# Altium schematic symbol library PC110.SchLib: 45 symbols (part 2 of 2)

## VL82C420-QFP
designator *  Reference: U
pins: 1 VCC (power), 2 SA16 (io), 3 LA17 (io), 4 LA18 (io), 5 LA19 (io), 6 LA20 (io), 7 LA21 (io), 8 LA22 (io), 9 LA23 (io), 10 REFRESH# (io), 11 GND (power), 12 SA0 (io), 13 SA1 (io), 14 SBHE# (io), 15 VCCIO (power), 16 (in), 17 (in), 18 MEMR# (io), 19 MEMW# (io), 20 BIOS_CE# (out), 21 AEN (out), 22 FDCTC (io), 23 IOCHRDY (io), 24 ZEROWS# (io), 25 PCMCIA_CLK (out), 26 GND (power), 27 MEMCS16# (in), 28 IOCS16# (in), 29 IOR# (out), 30 IOW# (out), 31 (in), 32 (in), 33 PCMCIA_BALE (out), 34 GND (power), 35 SD0 (io), 36 SD1 (io), 37 SD2 (io), 38 SD3 (io), 39 SD4 (io), 40 SD5 (io), 41 SD6 (io), 42 SD7 (io), 43 VCCIO (power), 44 SD8 (io), 45 SD9 (io), 46 SD10 (io), 47 SD11 (io), 48 SD12 (io), 49 SD13 (io), 50 SD14 (io), 51 SD15 (io), 52 GND (power), 53 CLOCK_IN (in), 54 SPKR (out), 55 RESET (io), 56 PCMCIA_CS (io), 57 TP1 (io), 58 PWRGD_P13 (out), 59 UNKNOWN2 (io), 60 UNKNOWN1 (io), 61 Bowman5 (io), 62 PCMCIA_RELATED (io), 63 (in), 64 (in), 65 KBSPKDN (in), 66 PS/RCLR# (io), 67 RTCOSCO (io), 68 RTCOSCI (io), 69 RTCBAT (in), 70 KBRESET# (io), 71 RTCBAT_Sense (io), 72 PWRGD (out), 73 32KHz (out), 74 (in), 75 Bowman2 (io), 76 Bowman3 (io), 77 Bowman4 (io), 78 Bowman1 (io), 79 UNKNOWN4 (io), 80 (in), 81 UNKNOWN3 (io), 82 GND (power), 83 CPUA2 (io), 84 CPUA3 (io), 85 CPUA4 (io), 86 CPUA5 (io), 87 CPUA6 (io), 88 CPUA7 (io), 89 CPUA8 (io), 90 CPUA9 (io), 91 CPUA10 (io), 92 CPUA11 (io), 93 CPUA12 (io), 94 VCC (power), 95 CPUA13 (io), 96 CPUA14 (io), 97 CPUA15 (io), 98 CPUA16 (io), 99 CPUA17 (io), 100 CPUA18 (io), 101 CPUA19 (io), 102 CPUA20 (io), 103 CPUA21 (io), 104 GND (power), 105 CPU2XCLK (in), 106 CPUA22 (io), 107 CPUA23 (io), 108 CPUA24 (io), 109 CPUA25 (io), 110 CPUA31 (io), 111 CPULDEV# (out), 112 CPUADS# (in), 113 CPUBLAST# (in), 114 CPUBRDY# (out), 115 CPURDY# (out), 116 CPUKEN# (out), 117 CPUHOLD (out), 118 CPUAHOLD (out), 119 CPUHLDA (in), 120 CPUWR# (in), 121 CPUBE0# (in), 122 CPUBE1# (in), 123 CPUBE2# (in), 124 CPUBE3# (in), 125 CPUCLK (out), 126 VCC (power), 127 CPUCLK33 (out), 128 GND (power), 129 CPUCLKSENS (out), 130 VCC (power), 131 CPUMIO# (in), 132 CPUDC# (in), 133 CPUEADS# (out), 134 CPUA20M# (out), 135 CPURESET (out), 136 CPUFLUSH# (out), 137 CPUINTR (out), 138 CPUNMI (out), 139 CPUSRESET# (out), 140 CPUSMIACT# (in), 141 CPUSMI# (out), 142 (in), 143 (in), 144 CPUSTPCLK# (out), 145 D0 (io), 146 D1 (io), 147 D2 (io), 148 D3 (io), 149 D4 (io), 150 D5 (io), 151 D6 (io), 152 D7 (io), 153 D8 (io), 154 D9 (io), 155 D10 (io), 156 GND (power), 157 VCC (power), 158 D11 (io), 159 D12 (io), 160 D13 (io), 161 D14 (io), 162 D15 (io), 163 D16 (io), 164 D17 (io), 165 D18 (io), 166 D19 (io), 167 D20 (io), 168 D21 (io), 169 D22 (io), 170 D23 (io), 171 D24 (io), 172 D25 (io), 173 D26 (io), 174 D27 (io), 175 D28 (io), 176 D29 (io), 177 D30 (io), 178 D31 (io), 179 GND (power), 180 RAMWE# (out), 181 UCASL# (out), 182 LCASL# (out), 183 UCASU# (out), 184 LCASU# (out), 185 VCC (power), 186 RAMA11 (io), 187 RAMA10 (io), 188 RAMA9 (io), 189 RAMA8 (io), 190 GND (power), 191 RAMA7 (io), 192 RAMA6 (io), 193 RAMA5 (io), 194 RAMA4 (io), 195 RAMA3 (io), 196 VCC (power), 197 RAMA2 (io), 198 RAMA1 (io), 199 RAMA0 (io), 200 RAS3 (out), 201 RAS2 (out), 202 RAS1 (out), 203 RAS0 (out), 204 (in), 205 (in), 206 (in), 207 (in), 208 GND (power)
text: VL82C420FC5\nQFP208\n

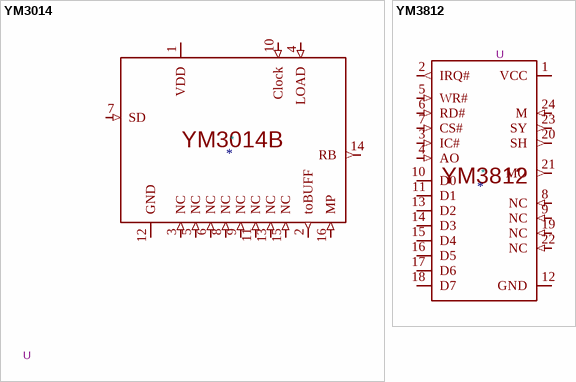
[diagram p13: symbols YM3014 to YM3812]

## YM3014
designator *  Reference: U
pins: 1 VDD (power), 2 toBUFF (out), 3 NC (in), 4 LOAD (in), 5 NC (in), 6 NC (in), 7 SD (in), 8 NC (in), 9 NC (in), 10 Clock (in), 11 NC (in), 12 GND (power), 13 NC (in), 14 RB (out), 15 NC (in), 16 MP (in)
text: YM3014B

## YM3812
designator *  Reference: U
pins: 1 VCC (power), 2 IRQ# (out), 3 IC# (in), 4 AO (in), 5 WR# (in), 6 RD# (in), 7 CS# (in), 8 NC (in), 9 NC (in), 10 D0 (io), 11 D1 (io), 12 GND (power), 13 D2 (io), 14 D3 (io), 15 D4 (io), 16 D5 (io), 17 D6 (io), 18 D7 (io), 19 NC (in), 20 SH (out), 21 MO (out), 22 NC (in), 23 SY (out), 24 M (in)